# Altium footprint library Conn_Harting_09452819001.PcbLib: 2 footprints
Each footprint in its own frame and in the unit in brackets; x right, y up, seen from the top. Pads: shape width x height; smd on the part's side, far side on the other; paste and mask are expansions set on the pad; w line width, h text height; cw(c..) or ccw(c..) is an arc to the next point about the centre after c.
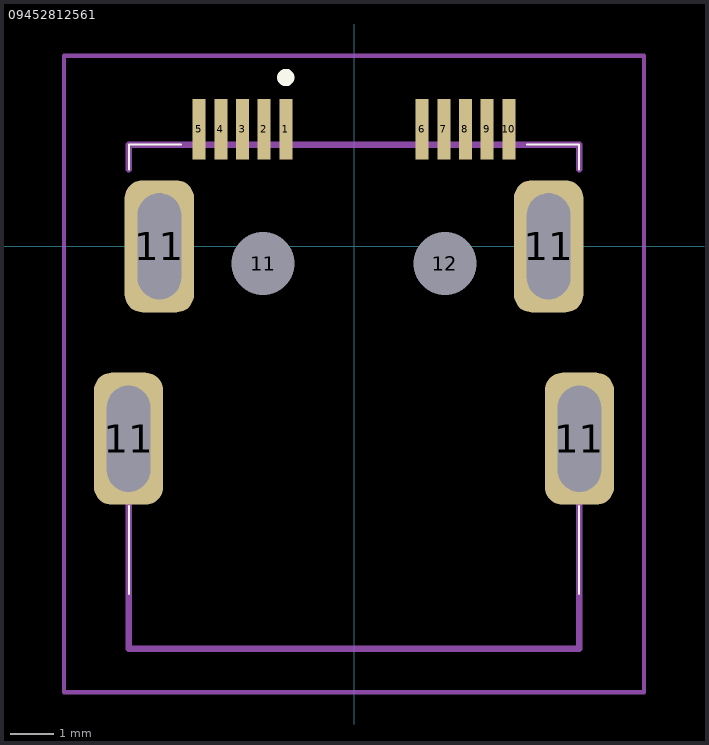
[diagram p0: the footprints below, top view; thin cyan lines are the x and y axes]

## 09452812561 [mm]
pads (16):
  rect 0.3x1.4 smd: 1(-1.575,2.7) 2(-2.075,2.7) 3(-2.575,2.7) 4(-3.075,2.7) 5(-3.575,2.7) 6(1.575,2.7) 7(2.075,2.7) 8(2.575,2.7) 9(3.075,2.7) 10(3.575,2.7)
  rrect50% 1.6x3.05 hole 2.45 slot 1 at 0 deg: 11(-5.207,-4.445) 11(-4.496,0) 11(4.496,0) 11(5.207,-4.445)
  round 0.725 hole 1.45 unplated: 11(-2.1,-0.4) 12(2.1,-0.4)
Top Overlay:
  lines w0.05: -5.2,-8.03 -5.2,-5.998 ; -5.2,1.778 -5.2,2.35 -4,2.35 ; 4,2.35 5.2,2.35 5.2,1.778 ; 5.2,-8.03 5.2,-5.998
  lines w0.2: -1.675,3.9 ccw(c-1.575,3.9) -1.475,3.9 ccw(c-1.575,3.9) -1.675,3.9
Mechanical 13:
  lines w0.1: -5.5,-5.1 -5.5,-5.45 -5.2,-5.45 -5.2,-5.1 -4.9,-5.1 -4.9,-5.45 ; -5.5,-4.85 -4.9,-4.85 -4.9,-4.5 ; -5.5,-3.85 -5.5,-3.35 ; -5.5,-3.6 -4.9,-3.6 ; -4.8,-0.65 -4.8,-1 -4.5,-1 -4.5,-0.65 -4.2,-0.65 -4.2,-1 ; -4.8,-0.4 -4.2,-0.4 -4.2,-0.05 ; -4.8,0.6 -4.8,1.1 ; -4.8,0.85 -4.2,0.85 ; 4.2,-0.65 4.2,-1 4.5,-1 4.5,-0.65 4.8,-0.65 4.8,-1 ; 4.2,-0.4 4.8,-0.4 4.8,-0.05 ; 4.2,0.6 4.2,1.1 ; 4.2,0.85 4.8,0.85 ; 4.9,-5.1 4.9,-5.45 5.2,-5.45 5.2,-5.1 5.5,-5.1 5.5,-5.45 ; 4.9,-4.85 5.5,-4.85 5.5,-4.5 ; 4.9,-3.85 4.9,-3.35 ; 4.9,-3.6 5.5,-3.6 ; -5.7,-5.475 ccw(c-5.5,-5.475) -5.5,-5.675 -4.9,-5.675 ccw(c-4.9,-5.475) -4.7,-5.475 -4.7,-3.425 ccw(c-4.9,-3.425) -4.9,-3.225 -5.5,-3.225 ccw(c-5.5,-3.425) -5.7,-3.425 -5.7,-5.475 ; -5.5,-4.3 -4.9,-4.3 -4.9,-4 -5.5,-4 -5.5,-4.3 ; -5,-1.025 ccw(c-4.8,-1.025) -4.8,-1.225 -4.2,-1.225 ccw(c-4.2,-1.025) -4,-1.025 -4,1.025 ccw(c-4.2,1.025) -4.2,1.225 -4.8,1.225 ccw(c-4.8,1.025) -5,1.025 -5,-1.025 ; -4.8,0.15 -4.2,0.15 -4.2,0.45 -4.8,0.45 -4.8,0.15 ; 4,-1.025 ccw(c4.2,-1.025) 4.2,-1.225 4.8,-1.225 ccw(c4.8,-1.025) 5,-1.025 5,1.025 ccw(c4.8,1.025) 4.8,1.225 4.2,1.225 ccw(c4.2,1.025) 4,1.025 4,-1.025 ; 4.2,0.15 4.8,0.15 4.8,0.45 4.2,0.45 4.2,0.15 ; 4.7,-5.475 ccw(c4.9,-5.475) 4.9,-5.675 5.5,-5.675 ccw(c5.5,-5.475) 5.7,-5.475 5.7,-3.425 ccw(c5.5,-3.425) 5.5,-3.225 4.9,-3.225 ccw(c4.9,-3.425) 4.7,-3.425 4.7,-5.475 ; 4.9,-4.3 5.5,-4.3 5.5,-4 4.9,-4 4.9,-4.3
  lines w0.15: -5.2,-5.95 -5.2,-9.3 5.2,-9.3 5.2,-5.95 ; -5.2,1.778 -5.2,2.31 ; -5.2,2.35 5.2,2.35 5.2,1.778
Mechanical 15:
  lines w0.1: -6.7,-10.3 6.7,-10.3 6.7,4.4 -6.7,4.4 -6.7,-10.3
3D body "09452819001_100806978MOD000C.STP": height 5.7, standoff -1.5, extent -5.4,-9.3 5.4,3.1

## PCBComponent_1 [mm]